# EAGLE library part 750341867 (library Wurth Electronics Midcom Inc - EAGLE Lib V2-1)
Package Style: EE25/13/7 Mounting: THT Pins: 14 pins Bobbin: 070-5644 Best pinouts for production vary per application. Please contact Wurth Electronics Midcom, Inc. for assistance with your custom design. Website: Wurth Electronics Midcom <http://www.we-online.com/midcom> Contact us Wurth Electronics Midcom, Inc. 121 Airport Dr. Watertown, SD 57201 Phone: (605) 886-4385 Fax: (605) 886-4486 E-Mail: midcom@we-online.com
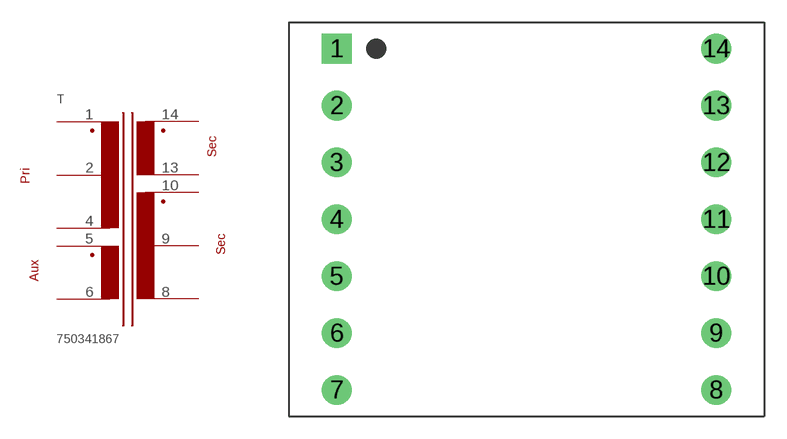
[diagram p217: symbol with the pads of EE25/13/7_THT_H_14PIN_(5644); footprint EE25/13/7_THT_H_14PIN_(5644)]

Designator prefix T

## 750341867  [EE25/13/7_THT_H_14PIN_(5644)]
1  1  pas
2  2  pas
4  4  pas
5  5  pas
6  6  pas
8  8  pas
9  9  pas
10  10  pas
13  13  pas
14  14  pas

## Footprint EE25/13/7_THT_H_14PIN_(5644) (pad centres in mm)
Package Style: EE25/13/7 Mounting: THT Pins: 14 Bobbin: 070-5644
drill 1.321 square: 1 -12.7,11.43
drill 1.321: 2 -12.7,7.62; 3 -12.7,3.81; 4 -12.7,0; 5 -12.7,-3.81; 6 -12.7,-7.62; 7 -12.7,-11.43; 8 12.7,-11.43; 9 12.7,-7.62; 10 12.7,-3.81; 11 12.7,0; 12 12.7,3.81; 13 12.7,7.62; 14 12.7,11.43